# Altium schematic symbol library BH-CR2-PC.SchLib: 1 symbol
Pins are listed as number, name and electrical type; pins without a type are passive.

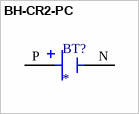
[diagram p0: symbol BH-CR2-PC]

## BH-CR2-PC
designator BT?
BATTERY HOLDER CR2 PC PIN; MP: BH-CR2-PC; MF: MPD; Package: None; SnapEDA_Link: https://www.snapeda.com/parts/BH-CR2-PC/MPD/view-part/4389079/?ref=snap; Check_prices: https://www.snapeda.com/parts/BH-CR2-PC/MPD/view-part/4389079/?ref=eda; Availability: Bad; Value: *; Price: None
footprint BAT_BH-CR2-PC
pins: N NEG, P POS